# EAGLE library part K561TM2 (library _mtvl_ic.soviet)
Dual D FLIP FLOP, set/reset
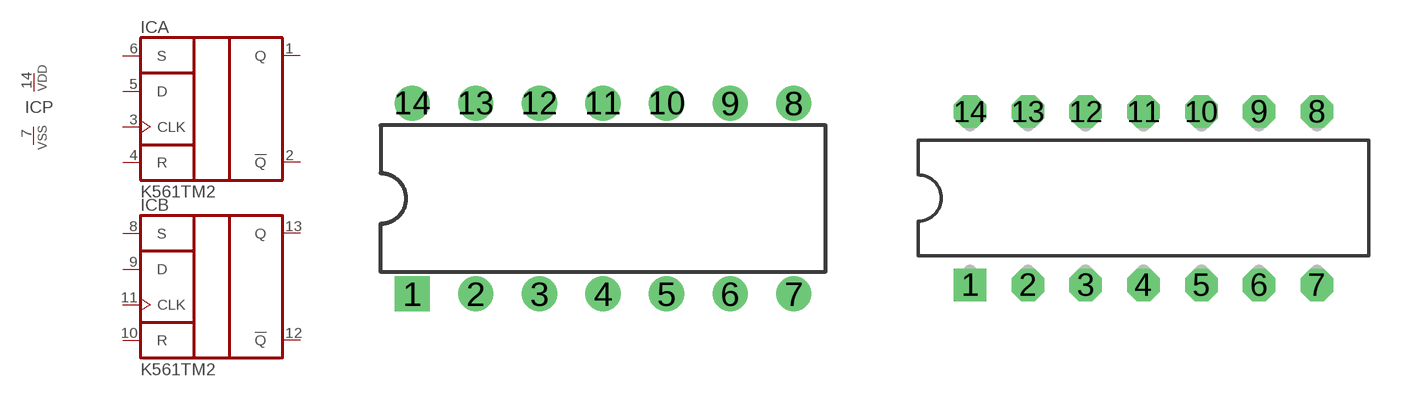
[diagram p4: symbol with the pads of DIL14; footprints DIL14, 201.14-1]

Designator prefix IC; gates A=K561TM2 B=K561TM2 P=PWRN

## K561TM2N  [DIL14]
1  A:Q  out
2  A:!Q  out
3  A:CLK  in
4  A:R  in
5  A:D  in
6  A:S  in
7  P:VSS  pwr
8  B:S  in
9  B:D  in
10  B:R  in
11  B:CLK  in
12  B:!Q  out
13  B:Q  out
14  P:VDD  pwr

## K561TM2  [201.14-1]
Pads as for DIL14

## Footprint DIL14 (pad centres in mm)
Dual In Line Package
drill 0.9 square: 1 -7.62,-3.81
drill 0.9: 2 -5.08,-3.81; 3 -2.54,-3.81; 4 0,-3.81; 5 2.54,-3.81; 6 5.08,-3.81; 7 7.62,-3.81; 8 7.62,3.81; 9 5.08,3.81; 10 2.54,3.81; 11 0,3.81; 12 -2.54,3.81; 13 -5.08,3.81; 14 -7.62,3.81

## Footprint 201.14-1 (pad centres in mm)
Dual In Line Package
drill 0.9 square: 1 -7.5,-3.75
drill 0.9 octagon: 2 -5,-3.75; 3 -2.5,-3.75; 4 0,-3.75; 5 2.5,-3.75; 6 5,-3.75; 7 7.5,-3.75; 8 7.5,3.75; 9 5,3.75; 10 2.5,3.75; 11 0,3.75; 12 -2.5,3.75; 13 -5,3.75; 14 -7.5,3.75